# Altium footprint library LEDs and Displays.PcbLib: 29 footprints (part 1 of 2)
Each footprint in its own frame and in the unit in brackets; x right, y up, seen from the top. Pads: shape width x height; smd on the part's side, far side on the other; paste and mask are expansions set on the pad; w line width, h text height; cw(c..) or ccw(c..) is an arc to the next point about the centre after c.
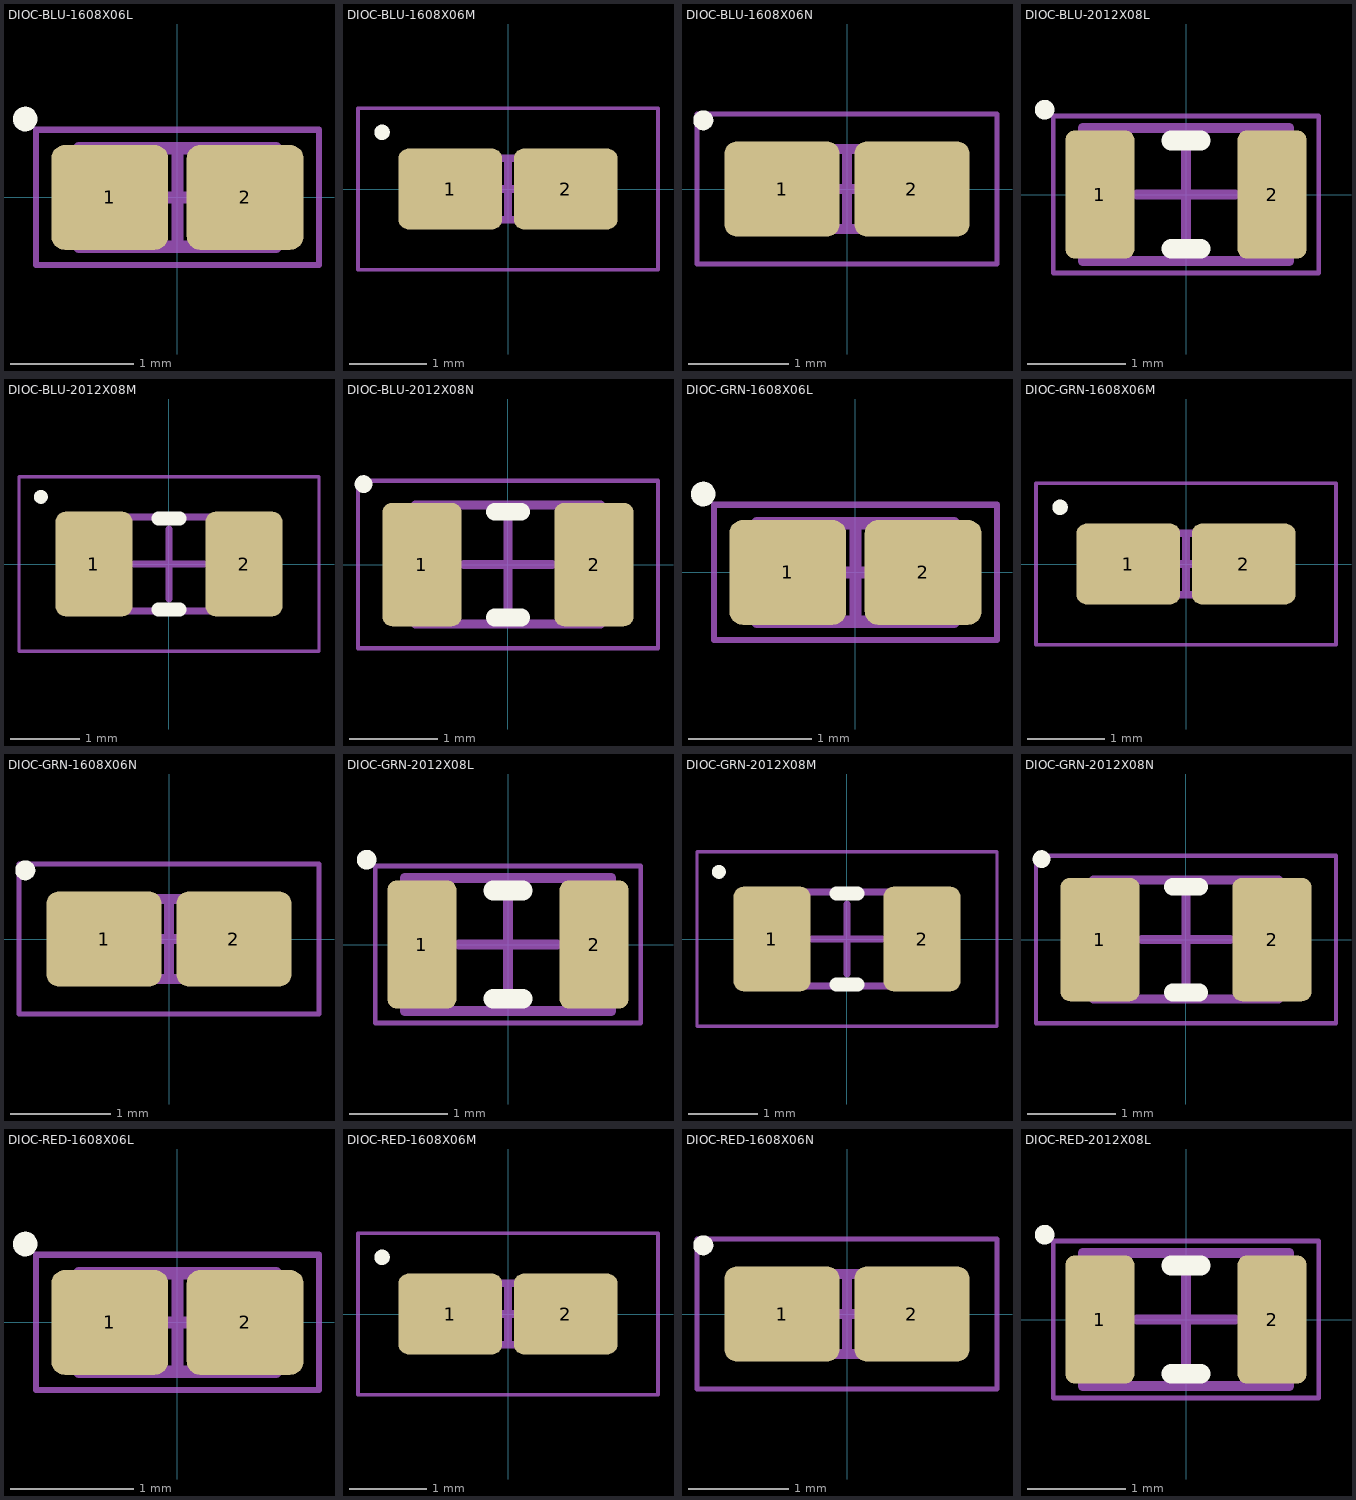
[diagram p0: the footprints below, top view; thin cyan lines are the x and y axes]

## DIOC-BLU-1608X06L [mm] "Chip Diode Blue, 2-Leads, Body 1.60x0.80mm, IPC High Density"
height 0.55
pads (2):
  rrect25% 0.95x0.85 smd paste+0 mask+0.05: 1(-0.55,0) 2(0.55,0)
Top Overlay:
  circle w0.1: c-1.237,0.637 r0.05
Top Component Outline:
  lines w0.1: -0.8,-0.4 -0.8,0.4 0.8,0.4 0.8,-0.4 -0.8,-0.4
Top Courtyard:
  lines w0.05: -1.15,-0.55 1.15,-0.55 1.15,0.55 -1.15,0.55 -1.15,-0.55
Top Component Center:
  lines w0.1: -0.4,0 0.4,0 ; 0,-0.4 0,0.4
Top Designator:
  text ".Designator" at -4.04,-0.476 h2
Top Assembly:
  lines w0.1: -0.8,-0.4 0.8,-0.4 0.8,0.4 -0.8,0.4 -0.8,-0.4
  text ".Designator" at -4.04,-0.476 h2
  text "A" at 0.463,0.501 h1
  text "K" at -0.92,0.501 h1
3D body "LED_0603_B.step": height 0.6, standoff 0, extent -0.8,-0.4 0.8,0.4

## DIOC-BLU-1608X06M [mm] "Chip Diode Blue, 2-Leads, Body 1.60x0.80mm, IPC Low Density"
height 0.55
pads (2):
  rrect25% 1.35x1.05 smd paste+0 mask+0.05: 1(-0.75,0) 2(0.75,0)
Top Overlay:
  circle w0.1: c-1.637,0.737 r0.05
Top Component Outline:
  lines w0.1: -0.8,-0.4 0.8,-0.4 0.8,0.4 -0.8,0.4 -0.8,-0.4
Top Courtyard:
  lines w0.05: -1.95,-1.05 1.95,-1.05 1.95,1.05 -1.95,1.05 -1.95,-1.05
Top Component Center:
  lines w0.1: -0.4,0 0.4,0 ; 0,-0.4 0,0.4
Top Designator:
  text ".Designator" at -4.04,-0.476 h2
Top Assembly:
  lines w0.1: -0.8,-0.4 0.8,-0.4 0.8,0.4 -0.8,0.4 -0.8,-0.4
  text ".Designator" at -4.04,-0.476 h2
  text "K" at -0.92,0.501 h1
  text "A" at 0.463,0.501 h1
3D body "LED_0603_B.step": height 0.6, standoff 0, extent -0.8,-0.4 0.8,0.4

## DIOC-BLU-1608X06N [mm] "Chip Diode Blue, 2-Leads, Body 1.60x0.80mm, IPC Medium Density"
height 0.55
pads (2):
  rrect25% 1.15x0.95 smd paste+0 mask+0.05: 1(-0.65,0) 2(0.65,0)
Top Overlay:
  circle w0.1: c-1.437,0.687 r0.05
Top Component Outline:
  lines w0.1: -0.8,-0.4 0.8,-0.4 0.8,0.4 -0.8,0.4 -0.8,-0.4
Top Courtyard:
  lines w0.05: -1.5,-0.75 1.5,-0.75 1.5,0.75 -1.5,0.75 -1.5,-0.75
Top Component Center:
  lines w0.1: -0.4,0 0.4,0 ; 0,-0.4 0,0.4
Top Designator:
  text ".Designator" at -4.04,-0.476 h2
Top Assembly:
  lines w0.1: -0.8,-0.4 0.8,-0.4 0.8,0.4 -0.8,0.4 -0.8,-0.4
  text ".Designator" at -4.04,-0.476 h2
  text "K" at -0.92,0.501 h1
  text "A" at 0.463,0.501 h1
3D body "LED_0603_B.step": height 0.6, standoff 0, extent -0.8,-0.4 0.8,0.4

## DIOC-BLU-2012X08L [mm] "Chip Diode Blue, 2-Leads, Body 2.00x1.25mm, IPC High Density"
height 0.8
pads (2):
  rrect25% 0.7x1.3 smd paste+0 mask+0.05: 1(-0.875,0) 2(0.875,0)
Top Overlay:
  circle w0.1: c-1.437,0.862 r0.05
  lines w0.2: -0.15,-0.55 0.15,-0.55 ; -0.15,0.55 0.15,0.55
Top Component Outline:
  lines w0.1: -1.05,-0.675 -1.05,0.675 1.05,0.675 1.05,-0.675 -1.05,-0.675
Top Courtyard:
  lines w0.05: -1.35,-0.8 -1.35,0.8 1.35,0.8 1.35,-0.8 -1.35,-0.8
Top Component Center:
  lines w0.1: -0.5,0 0.5,0 ; 0,-0.5 0,0.5
Top Designator:
  text ".Designator" at -4.04,-0.476 h2
Top Assembly:
  lines w0.1: -1.05,-0.675 -1.05,0.675 1.05,0.675 1.05,-0.675 -1.05,-0.675
  text "A" at 0.563,0.801 h1
  text "K" at -1.02,0.801 h1
  text ".Designator" at -4.04,-0.476 h2
3D body "LED_0805_B.step": height 1.1, standoff 0, extent -1.01,-0.625 1.01,0.625

## DIOC-BLU-2012X08M [mm] "Chip Diode Blue, 2-Leads, Body 2.00x1.25mm, IPC Low Density"
height 0.8
pads (2):
  rrect25% 1.1x1.5 smd paste+0 mask+0.05: 1(-1.075,0) 2(1.075,0)
Top Overlay:
  circle w0.1: c-1.837,0.962 r0.05
  lines w0.2: -0.15,-0.65 0.15,-0.65 ; -0.15,0.65 0.15,0.65
Top Component Outline:
  lines w0.1: -1.05,-0.675 -1.05,0.675 1.05,0.675 1.05,-0.675 -1.05,-0.675
Top Courtyard:
  lines w0.05: -2.15,-1.25 2.15,-1.25 2.15,1.25 -2.15,1.25 -2.15,-1.25
Top Component Center:
  lines w0.1: -0.5,0 0.5,0 ; 0,-0.5 0,0.5
Top Designator:
  text ".Designator" at -4.04,-0.476 h2
Top Assembly:
  lines w0.1: -1.05,-0.675 1.05,-0.675 1.05,0.675 -1.05,0.675 -1.05,-0.675
  text ".Designator" at -4.04,-0.476 h2
  text "A" at 0.563,0.801 h1
  text "K" at -1.02,0.801 h1
3D body "LED_0805_B.step": height 1.1, standoff 0, extent -1.01,-0.625 1.01,0.625

## DIOC-BLU-2012X08N [mm] "Chip Diode Blue, 2-Leads, Body 2.00x1.25mm, IPC Medium Density"
height 0.8
pads (2):
  rrect25% 0.9x1.4 smd paste+0 mask+0.05: 1(-0.975,0) 2(0.975,0)
Top Overlay:
  circle w0.1: c-1.637,0.912 r0.05
  lines w0.2: -0.15,-0.6 0.15,-0.6 ; -0.15,0.6 0.15,0.6
Top Component Outline:
  lines w0.1: -1.05,-0.675 1.05,-0.675 1.05,0.675 -1.05,0.675 -1.05,-0.675
Top Courtyard:
  lines w0.05: -1.7,-0.95 1.7,-0.95 1.7,0.95 -1.7,0.95 -1.7,-0.95
Top Component Center:
  lines w0.1: -0.5,0 0.5,0 ; 0,-0.5 0,0.5
Top Designator:
  text ".Designator" at -4.04,-0.476 h2
Top Assembly:
  lines w0.1: -1.05,-0.675 1.05,-0.675 1.05,0.675 -1.05,0.675 -1.05,-0.675
  text "K" at -1.02,0.801 h1
  text "A" at 0.563,0.801 h1
  text ".Designator" at -4.04,-0.476 h2
3D body "LED_0805_B.step": height 1.1, standoff 0, extent -1.01,-0.625 1.01,0.625

## DIOC-GRN-1608X06L [mm] "Chip Diode Green, 2-Leads, Body 1.60x0.80mm, IPC High Density"
height 0.55
pads (2):
  rrect25% 0.95x0.85 smd paste+0 mask+0.05: 1(-0.55,0) 2(0.55,0)
Top Overlay:
  circle w0.1: c-1.237,0.637 r0.05
Top Component Outline:
  lines w0.1: -0.8,-0.4 0.8,-0.4 0.8,0.4 -0.8,0.4 -0.8,-0.4
Top Courtyard:
  lines w0.05: -1.15,-0.55 -1.15,0.55 1.15,0.55 1.15,-0.55 -1.15,-0.55
Top Component Center:
  lines w0.1: -0.4,0 0.4,0 ; 0,-0.4 0,0.4
Top Designator:
  text ".Designator" at -4.04,-0.476 h2
Top Assembly:
  lines w0.1: -0.8,-0.4 -0.8,0.4 0.8,0.4 0.8,-0.4 -0.8,-0.4
  text "K" at -0.92,0.501 h1
  text "A" at 0.463,0.501 h1
  text ".Designator" at -4.04,-0.476 h2
3D body "LED_0603_G.step": height 0.6, standoff 0, extent -0.8,-0.4 0.8,0.4

## DIOC-GRN-1608X06M [mm] "Chip Diode Green, 2-Leads, Body 1.60x0.80mm, IPC Low Density"
height 0.55
pads (2):
  rrect25% 1.35x1.05 smd paste+0 mask+0.05: 1(-0.75,0) 2(0.75,0)
Top Overlay:
  circle w0.1: c-1.637,0.737 r0.05
Top Component Outline:
  lines w0.1: -0.8,-0.4 -0.8,0.4 0.8,0.4 0.8,-0.4 -0.8,-0.4
Top Courtyard:
  lines w0.05: -1.95,-1.05 -1.95,1.05 1.95,1.05 1.95,-1.05 -1.95,-1.05
Top Component Center:
  lines w0.1: -0.4,0 0.4,0 ; 0,-0.4 0,0.4
Top Designator:
  text ".Designator" at -4.04,-0.476 h2
Top Assembly:
  lines w0.1: -0.8,-0.4 -0.8,0.4 0.8,0.4 0.8,-0.4 -0.8,-0.4
  text "A" at 0.463,0.501 h1
  text "K" at -0.92,0.501 h1
  text ".Designator" at -4.04,-0.476 h2
3D body "LED_0603_G.step": height 0.6, standoff 0, extent -0.8,-0.4 0.8,0.4

## DIOC-GRN-1608X06N [mm] "Chip Diode Green, 2-Leads, Body 1.60x0.80mm, IPC Medium Density"
height 0.55
pads (2):
  rrect25% 1.15x0.95 smd paste+0 mask+0.05: 1(-0.65,0) 2(0.65,0)
Top Overlay:
  circle w0.1: c-1.437,0.687 r0.05
Top Component Outline:
  lines w0.1: -0.8,-0.4 0.8,-0.4 0.8,0.4 -0.8,0.4 -0.8,-0.4
Top Courtyard:
  lines w0.05: -1.5,-0.75 1.5,-0.75 1.5,0.75 -1.5,0.75 -1.5,-0.75
Top Component Center:
  lines w0.1: -0.4,0 0.4,0 ; 0,-0.4 0,0.4
Top Designator:
  text ".Designator" at -4.04,-0.476 h2
Top Assembly:
  lines w0.1: -0.8,-0.4 0.8,-0.4 0.8,0.4 -0.8,0.4 -0.8,-0.4
  text ".Designator" at -4.04,-0.476 h2
  text "K" at -0.92,0.501 h1
  text "A" at 0.463,0.501 h1
3D body "LED_0603_G.step": height 0.6, standoff 0, extent -0.8,-0.4 0.8,0.4

## DIOC-GRN-2012X08L [mm] "Chip Diode Green, 2-Leads, Body 2.00x1.25mm, IPC High Density"
height 0.8
pads (2):
  rrect25% 0.7x1.3 smd paste+0 mask+0.05: 1(-0.875,0) 2(0.875,0)
Top Overlay:
  circle w0.1: c-1.437,0.862 r0.05
  lines w0.2: -0.15,-0.55 0.15,-0.55 ; -0.15,0.55 0.15,0.55
Top Component Outline:
  lines w0.1: -1.05,-0.675 -1.05,0.675 1.05,0.675 1.05,-0.675 -1.05,-0.675
Top Courtyard:
  lines w0.05: -1.35,-0.8 -1.35,0.8 1.35,0.8 1.35,-0.8 -1.35,-0.8
Top Component Center:
  lines w0.1: -0.5,0 0.5,0 ; 0,-0.5 0,0.5
Top Designator:
  text ".Designator" at -4.04,-0.476 h2
Top Assembly:
  lines w0.1: -1.05,-0.675 -1.05,0.675 1.05,0.675 1.05,-0.675 -1.05,-0.675
  text "A" at 0.563,0.801 h1
  text "K" at -1.02,0.801 h1
  text ".Designator" at -4.04,-0.476 h2
3D body "LED_0805_G.step": height 1.1, standoff 0, extent -1.01,-0.625 1.01,0.625

## DIOC-GRN-2012X08M [mm] "Chip Diode Green, 2-Leads, Body 2.00x1.25mm, IPC Low Density"
height 0.8
pads (2):
  rrect25% 1.1x1.5 smd paste+0 mask+0.05: 1(-1.075,0) 2(1.075,0)
Top Overlay:
  circle w0.1: c-1.837,0.962 r0.05
  lines w0.2: -0.15,-0.65 0.15,-0.65 ; -0.15,0.65 0.15,0.65
Top Component Outline:
  lines w0.1: -1.05,-0.675 1.05,-0.675 1.05,0.675 -1.05,0.675 -1.05,-0.675
Top Courtyard:
  lines w0.05: -2.15,-1.25 -2.15,1.25 2.15,1.25 2.15,-1.25 -2.15,-1.25
Top Component Center:
  lines w0.1: -0.5,0 0.5,0 ; 0,-0.5 0,0.5
Top Designator:
  text ".Designator" at -4.04,-0.476 h2
Top Assembly:
  lines w0.1: -1.05,-0.675 -1.05,0.675 1.05,0.675 1.05,-0.675 -1.05,-0.675
  text "K" at -1.02,0.801 h1
  text "A" at 0.563,0.801 h1
  text ".Designator" at -4.04,-0.476 h2
3D body "LED_0805_G.step": height 1.1, standoff 0, extent -1.01,-0.625 1.01,0.625

## DIOC-GRN-2012X08N [mm] "Chip Diode Green, 2-Leads, Body 2.00x1.25mm, IPC Medium Density"
height 0.8
pads (2):
  rrect25% 0.9x1.4 smd paste+0 mask+0.05: 1(-0.975,0) 2(0.975,0)
Top Overlay:
  circle w0.1: c-1.637,0.912 r0.05
  lines w0.2: -0.15,-0.6 0.15,-0.6 ; -0.15,0.6 0.15,0.6
Top Component Outline:
  lines w0.1: -1.05,-0.675 1.05,-0.675 1.05,0.675 -1.05,0.675 -1.05,-0.675
Top Courtyard:
  lines w0.05: -1.7,-0.95 1.7,-0.95 1.7,0.95 -1.7,0.95 -1.7,-0.95
Top Component Center:
  lines w0.1: -0.5,0 0.5,0 ; 0,-0.5 0,0.5
Top Designator:
  text ".Designator" at -4.04,-0.476 h2
Top Assembly:
  lines w0.1: -1.05,-0.675 1.05,-0.675 1.05,0.675 -1.05,0.675 -1.05,-0.675
  text "K" at -1.02,0.801 h1
  text "A" at 0.563,0.801 h1
  text ".Designator" at -4.04,-0.476 h2
3D body "LED_0805_G.step": height 1.1, standoff 0, extent -1.01,-0.625 1.01,0.625

## DIOC-RED-1608X06L [mm] "Chip Diode Red, 2-Leads, Body 1.60x0.80mm, IPC High Density"
height 0.55
pads (2):
  rrect25% 0.95x0.85 smd paste+0 mask+0.05: 1(-0.55,0) 2(0.55,0)
Top Overlay:
  circle w0.1: c-1.237,0.637 r0.05
Top Component Outline:
  lines w0.1: -0.8,-0.4 0.8,-0.4 0.8,0.4 -0.8,0.4 -0.8,-0.4
Top Courtyard:
  lines w0.05: -1.15,-0.55 -1.15,0.55 1.15,0.55 1.15,-0.55 -1.15,-0.55
Top Component Center:
  lines w0.1: -0.4,0 0.4,0 ; 0,-0.4 0,0.4
Top Designator:
  text ".Designator" at -4.04,-0.476 h2
Top Assembly:
  lines w0.1: -0.8,-0.4 -0.8,0.4 0.8,0.4 0.8,-0.4 -0.8,-0.4
  text "K" at -0.92,0.501 h1
  text "A" at 0.463,0.501 h1
  text ".Designator" at -4.04,-0.476 h2
3D body "LED_0603_R.step": height 0.6, standoff 0, extent -0.8,-0.4 0.8,0.4

## DIOC-RED-1608X06M [mm] "Chip Diode Red, 2-Leads, Body 1.60x0.80mm, IPC Low Density"
height 0.55
pads (2):
  rrect25% 1.35x1.05 smd paste+0 mask+0.05: 1(-0.75,0) 2(0.75,0)
Top Overlay:
  circle w0.1: c-1.637,0.737 r0.05
Top Component Outline:
  lines w0.1: -0.8,-0.4 -0.8,0.4 0.8,0.4 0.8,-0.4 -0.8,-0.4
Top Courtyard:
  lines w0.05: -1.95,-1.05 -1.95,1.05 1.95,1.05 1.95,-1.05 -1.95,-1.05
Top Component Center:
  lines w0.1: -0.4,0 0.4,0 ; 0,-0.4 0,0.4
Top Designator:
  text ".Designator" at -4.04,-0.476 h2
Top Assembly:
  lines w0.1: -0.8,-0.4 -0.8,0.4 0.8,0.4 0.8,-0.4 -0.8,-0.4
  text ".Designator" at -4.04,-0.476 h2
  text "A" at 0.463,0.501 h1
  text "K" at -0.92,0.501 h1
3D body "LED_0603_R.step": height 0.6, standoff 0, extent -0.8,-0.4 0.8,0.4

## DIOC-RED-1608X06N [mm] "Chip Diode Red, 2-Leads, Body 1.60x0.80mm, IPC Medium Density"
height 0.55
pads (2):
  rrect25% 1.15x0.95 smd paste+0 mask+0.05: 1(-0.65,0) 2(0.65,0)
Top Overlay:
  circle w0.1: c-1.437,0.687 r0.05
Top Component Outline:
  lines w0.1: -0.8,-0.4 -0.8,0.4 0.8,0.4 0.8,-0.4 -0.8,-0.4
Top Courtyard:
  lines w0.05: -1.5,-0.75 -1.5,0.75 1.5,0.75 1.5,-0.75 -1.5,-0.75
Top Component Center:
  lines w0.1: -0.4,0 0.4,0 ; 0,-0.4 0,0.4
Top Designator:
  text ".Designator" at -4.04,-0.476 h2
Top Assembly:
  lines w0.1: -0.8,-0.4 -0.8,0.4 0.8,0.4 0.8,-0.4 -0.8,-0.4
  text "A" at 0.463,0.501 h1
  text "K" at -0.92,0.501 h1
  text ".Designator" at -4.04,-0.476 h2
3D body "LED_0603_R.step": height 0.6, standoff 0, extent -0.8,-0.4 0.8,0.4

## DIOC-RED-2012X08L [mm] "Chip Diode Red, 2-Leads, Body 2.00x1.25mm, IPC High Density"
height 0.8
pads (2):
  rrect25% 0.7x1.3 smd paste+0 mask+0.05: 1(-0.875,0) 2(0.875,0)
Top Overlay:
  circle w0.1: c-1.437,0.862 r0.05
  lines w0.2: -0.15,-0.55 0.15,-0.55 ; -0.15,0.55 0.15,0.55
Top Component Outline:
  lines w0.1: -1.05,-0.675 1.05,-0.675 1.05,0.675 -1.05,0.675 -1.05,-0.675
Top Courtyard:
  lines w0.05: -1.35,-0.8 1.35,-0.8 1.35,0.8 -1.35,0.8 -1.35,-0.8
Top Component Center:
  lines w0.1: -0.5,0 0.5,0 ; 0,-0.5 0,0.5
Top Designator:
  text ".Designator" at -4.04,-0.476 h2
Top Assembly:
  lines w0.1: -1.05,-0.675 1.05,-0.675 1.05,0.675 -1.05,0.675 -1.05,-0.675
  text ".Designator" at -4.04,-0.476 h2
  text "K" at -1.02,0.801 h1
  text "A" at 0.563,0.801 h1
3D body "LED_0805_R.step": height 1.1, standoff 0, extent -1.01,-0.625 1.01,0.625